# EAGLE library part UE27AC54100 (library CardReader)
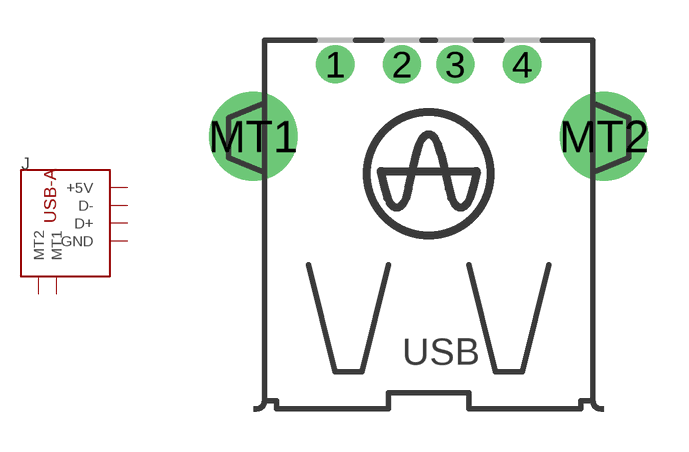
[diagram p1: symbol with the pads of USB-A; footprint USB-A]

Designator prefix J

## UE27AC54100  [USB-A]
1  +5V
2  D-
3  D+
4  GND
MT1  MT1
MT2  MT2

## Footprint USB-A (pad centres in mm)
USB YAMAICHI CONNECTOR
drill 0.92: 1 -3.5,12.99; 2 -1,12.99; 3 1,12.99; 4 3.5,12.99
drill 2.3: MT1 -6.57,10.3; MT2 6.57,10.3